# EAGLE library part 631006136321 (library Wuerth_Elektronik_eiCan_Communication_Connectors_v2.4)
WR-COM Horizontal Shielded Colored Mini DIN, Color: Green
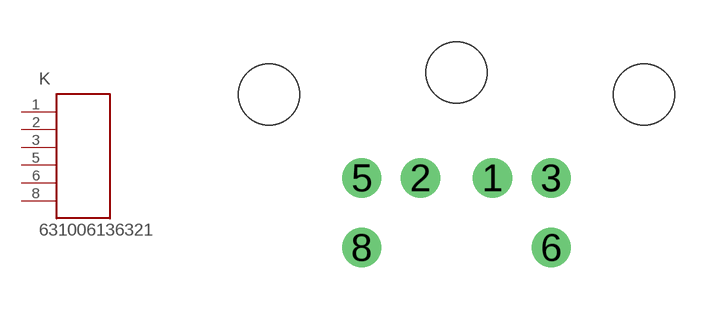
[diagram p2: symbol with the pads of 631006136321; footprint 631006136321]

Designator prefix K

## 631006136321  [631006136321]
1  1  pas
2  2  pas
3  3  pas
5  4  pas
6  5  pas
8  6  pas

## Footprint 631006136321 (pad centres in mm)
WR-COM Horizontal Shielded Colored Mini DIN, Color: Green
drill 0.9 round: 1 1.295,0.01; 2 -1.295,0.01; 3 3.405,0.01; 5 -3.405,0.01; 6 3.405,-2.49; 8 -3.405,-2.49
hole 2.2 at 0,3.81
hole 2.2 at -6.75,3.01
hole 2.2 at 6.75,3.01